# Altium integrated library pedals-capacitors-elec.IntLib: 13 symbols
Pins are listed as number, name and electrical type; pins without a type are passive.

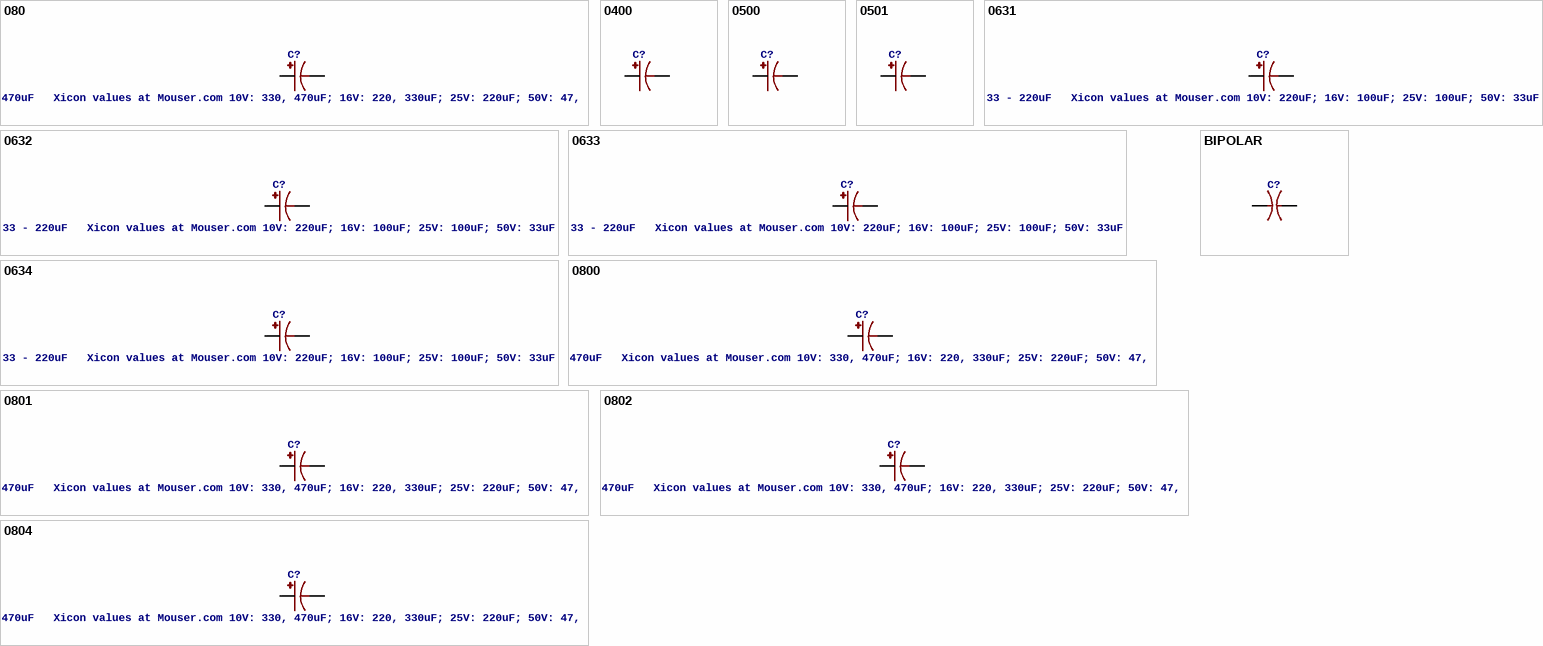
[diagram p0: symbols 080 to BIPOLAR]

## 080
designator C?, comment 47 - 470uF   Xicon values at Mouser.com 10V: 330, 470uF; 16V: 220, 330uF; 25V: 220uF; 50V: 47, 100uF
footprint FLATLARGE
pins: +, -

## 0400
designator C?
footprint 040_020
pins: +, -

## 0500
designator C?
footprint 050_020
pins: +, -

## 0501
designator C?
footprint 050_020_1
pins: +, -

## 0631
designator C?, comment 33 - 220uF   Xicon values at Mouser.com 10V: 220uF; 16V: 100uF; 25V: 100uF; 50V: 33uF
footprint 063_025
pins: +, -

## 0632
designator C?, comment 33 - 220uF   Xicon values at Mouser.com 10V: 220uF; 16V: 100uF; 25V: 100uF; 50V: 33uF
footprint 063_025_2
pins: +, -

## 0633
designator C?, comment 33 - 220uF   Xicon values at Mouser.com 10V: 220uF; 16V: 100uF; 25V: 100uF; 50V: 33uF
footprint 063_025_3
pins: +, -

## 0634
designator C?, comment 33 - 220uF   Xicon values at Mouser.com 10V: 220uF; 16V: 100uF; 25V: 100uF; 50V: 33uF
footprint 063_025_4
pins: +, -

## 0800
designator C?, comment 47 - 470uF   Xicon values at Mouser.com 10V: 330, 470uF; 16V: 220, 330uF; 25V: 220uF; 50V: 47, 100uF
footprint 080_035_1
pins: +, -

## 0801
designator C?, comment 47 - 470uF   Xicon values at Mouser.com 10V: 330, 470uF; 16V: 220, 330uF; 25V: 220uF; 50V: 47, 100uF
footprint 080_035
pins: +, -

## 0802
designator C?, comment 47 - 470uF   Xicon values at Mouser.com 10V: 330, 470uF; 16V: 220, 330uF; 25V: 220uF; 50V: 47, 100uF
footprint 080_035_2
pins: +, -

## 0804
designator C?, comment 47 - 470uF   Xicon values at Mouser.com 10V: 330, 470uF; 16V: 220, 330uF; 25V: 220uF; 50V: 47, 100uF
footprint 080_035_4
pins: +, -

## BIPOLAR
designator C?
footprint BIPOLAR
pins: 1 +, 2 -